# Altium footprint library INDP120120X102M.PcbLib: 1 footprints
Each footprint in its own frame and in the unit in brackets; x right, y up, seen from the top. Pads: shape width x height; smd on the part's side, far side on the other; paste and mask are expansions set on the pad; w line width, h text height; cw(c..) or ccw(c..) is an arc to the next point about the centre after c.
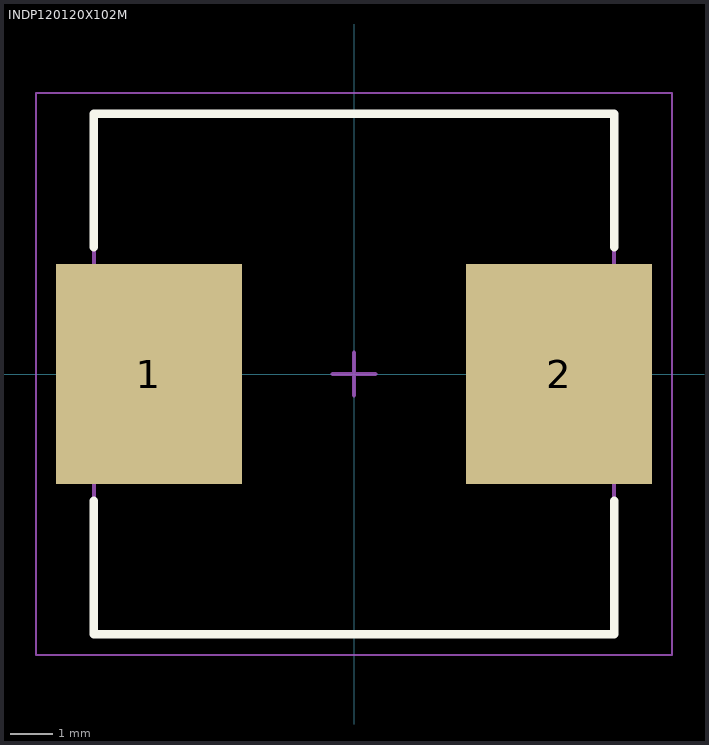
[diagram p0: the footprint, top view; thin cyan lines are the x and y axes]

## INDP120120X102M [mm] "Precision Wire Wound Inductor, 2-Leads, Body 12,00x12,00mm, IPC Low Density"
height 10.2
pads (2):
  rect 4.4x5.2 smd: 1(-4.85,0) 2(4.85,0)
Top Overlay:
  lines w0.2: -6.15,-3 -6.15,-6.15 6.15,-6.15 6.15,-3 ; -6.15,3 -6.15,6.15 6.15,6.15 6.15,3
3D Body:
  lines w0.1: -6.15,-6.15 -6.15,6.15 6.15,6.15 6.15,-6.15 -6.15,-6.15
Board:
  lines w0.05: -7.525,-6.65 -7.525,6.65 7.525,6.65 7.525,-6.65 -7.525,-6.65
  lines w0.1: -0.5,0 0.5,0 ; 0,-0.5 0,0.5
3D body: height 10.2, standoff 0, extent -6.15,-6.15 6.15,6.15